# EAGLE library part CC1120 (library west-eagle-library)
CC1120 High-Performance RF Transceiver for Narrowband Systems <https://www.ti.com/lit/ds/symlink/cc1120.pdf>
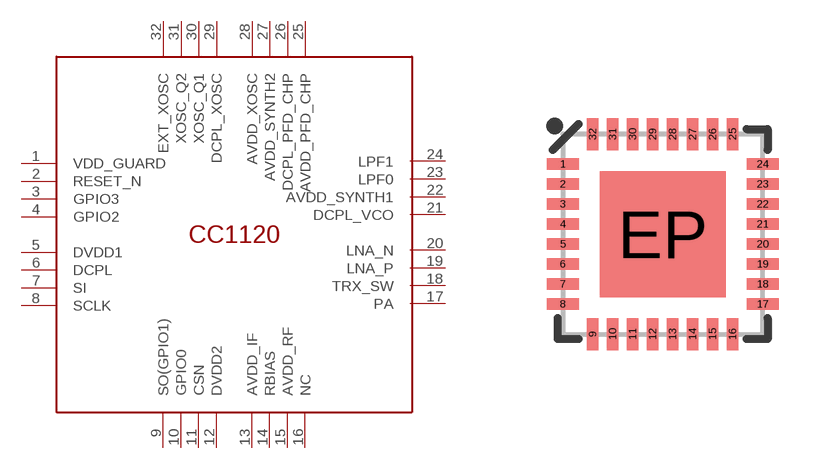
[diagram p0: symbol with the pads of VQFN; footprint VQFN]

Designator prefix -

## CC1120  [VQFN]
1  VDD_GUARD
2  RESET_N
3  GPIO3
4  GPIO2
5  DVDD1
6  DCPL
7  SI
8  SCLK
9  SO(GPIO1)
10  GPIO0
11  CSN
12  DVDD2
13  AVDD_IF
14  RBIAS
15  AVDD_RF
16  NC
17  PA
18  TRX_SW
19  LNA_P
20  LNA_N
21  DCPL_VCO
22  AVDD_SYNTH1
23  LPF0
24  LPF1
25  AVDD_PFD_CHP
26  DCPL_PFD_CHP
27  AVDD_SYNTH2
28  AVDD_XOSC
29  DCPL_XOSC
30  XOSC_Q1
31  XOSC_Q2
32  EXT_XOSC

## Footprint VQFN (pad centres in mm)
32-pin QFN 5.0 x 5.0 mm, 0.5mm pitch
smd 0.8 x 0.285: 1 -2.5,1.75; 2 -2.5,1.25; 3 -2.5,0.75; 4 -2.5,0.25; 5 -2.5,-0.25; 6 -2.5,-0.75; 7 -2.5,-1.25; 8 -2.5,-1.75; 17 2.5,-1.75; 18 2.5,-1.25; 19 2.5,-0.75; 20 2.5,-0.25; 21 2.5,0.25; 22 2.5,0.75; 23 2.5,1.25; 24 2.5,1.75
smd 0.285 x 0.8: 9 -1.75,-2.5; 10 -1.25,-2.5; 11 -0.75,-2.5; 12 -0.25,-2.5; 13 0.25,-2.5; 14 0.75,-2.5; 15 1.25,-2.5; 16 1.75,-2.5; 25 1.75,2.5; 26 1.25,2.5; 27 0.75,2.5; 28 0.25,2.5; 29 -0.25,2.5; 30 -0.75,2.5; 31 -1.25,2.5; 32 -1.75,2.5
smd 3.15 x 3.15: EP 0,0